# Altium footprint library BGA30C40P6X5_255X237X50.PcbLib: 1 footprints
Each footprint in its own frame and in the unit in brackets; x right, y up, seen from the top. Pads: shape width x height; smd on the part's side, far side on the other; paste and mask are expansions set on the pad; w line width, h text height; cw(c..) or ccw(c..) is an arc to the next point about the centre after c.
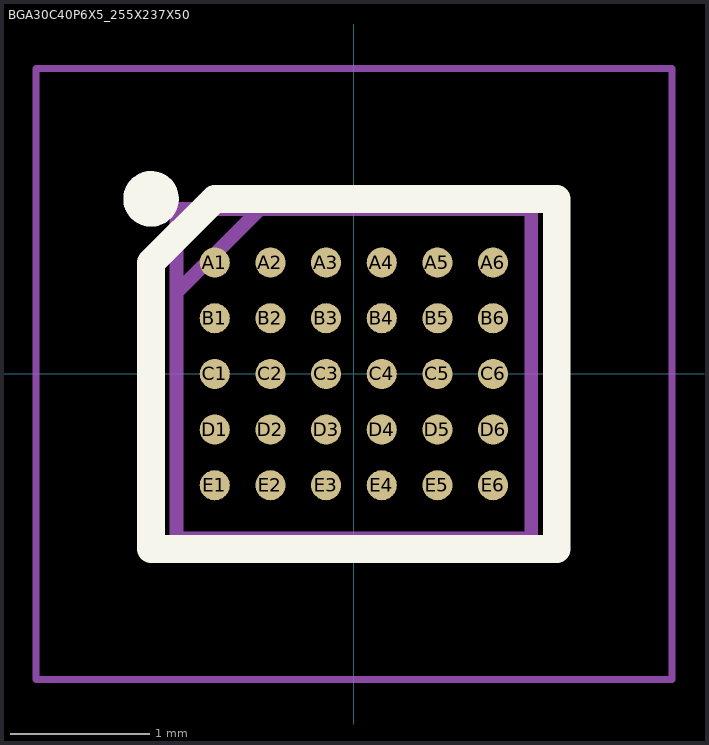
[diagram p0: the footprint, top view; thin cyan lines are the x and y axes]

## BGA30C40P6X5_255X237X50 [mm]
pads (30):
  round 0.216 smd: A1(-1,0.8) A2(-0.6,0.8) A3(-0.2,0.8) A4(0.2,0.8) A5(0.6,0.8) A6(1,0.8) B1(-1,0.4) B2(-0.6,0.4) B3(-0.2,0.4) B4(0.2,0.4) B5(0.6,0.4) B6(1,0.4) C1(-1,0) C2(-0.6,0) C3(-0.2,0) C4(0.2,0) C5(0.6,0) C6(1,0) D1(-1,-0.4) D2(-0.6,-0.4) D3(-0.2,-0.4) D4(0.2,-0.4) D5(0.6,-0.4) D6(1,-0.4) E1(-1,-0.8) E2(-0.6,-0.8) E3(-0.2,-0.8) E4(0.2,-0.8) E5(0.6,-0.8) E6(1,-0.8)
Top Overlay:
  circle w0.2: c-1.458,1.258 r0.1
  lines w0.2: -1.458,-1.258 1.458,-1.258 1.458,1.258 -1,1.258 -1.458,0.8 -1.458,-1.258
Mechanical 15:
  lines w0.1: -1.274,0.586 -0.676,1.184 ; -1.274,-1.184 1.274,-1.184 1.274,1.184 -1.274,1.184 -1.274,-1.184
Mechanical 20:
  lines w0.05: -2.286,-2.197 2.287,-2.197 2.287,2.196 -2.286,2.196 -2.286,-2.197